# Altium schematic symbol library FT245BL.Schlib: 1 symbol
Pins are listed as number, name and electrical type; pins without a type are passive.

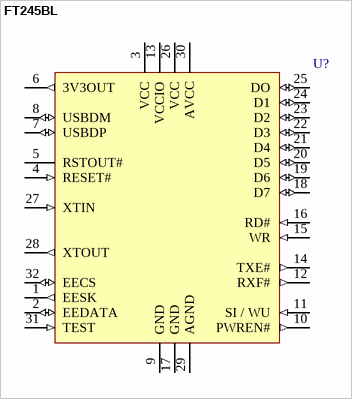
[diagram p0: symbol FT245BL]

## FT245BL
designator U?
USB/Parallel FIFO Bi-Directional Data Transfer Chip, LQFP-32, Pb-Free
pins: 1 EESK (out) "Clock signal to EEPROM. Adding a 10K pull down resistor onto EESK will cause the FT245BM to use USB Product ID 6005 (hex) instead of 6001 (hex). All of the other USB device descriptors are unchanged.", 2 EEDATA (io) "EEPROM - Data I/O Connect directly to Data-In of the EEPROM and to Data-Out of the EEPROM via a 2.2K resistor. Also pull Data-Out of the EEPROM to VCC via a 10K resistor for correct operation.", 3 VCC (power) "+4.35 volt to +5.25 volt VCC to the device core, LDO and none-FIFO interface pins.", 4 RESET# (in) "Can be used by an external device to reset the FT245BM. If not required, tie to VCC.", 5 RSTOUT# (hiz) "Output of the internal Reset Generator. Stays high impedance for 5ms after VCC > 3.5V and the internal clock starts up, then clamps its output to the 3.3V output of the internal regulator.", 6 3V3OUT (out) "3.3 volt Output from the integrated L.D.O. regulator This pin should be decoupled to GND using a 33nF ceramic capacitor in close proximity to the device pin.", 7 USBDP (io) "USB Data Signal Plus (Requires 1.5K pull-up to 3V3OUT or RSTOUT#)", 8 USBDM (io) "USB Data Signal Minus", 9 GND (power) "Device - Ground Supply Pins", 10 PWREN# (out) "Goes Low after the device is configured via USB, then high during USB suspend. Can be used to control power to external logic using a P-Channel MOSFET switch. Enable the Interface Pull-Down Option in EEPROM when using the PWREN# pin in this way.", 11 SI / WU (in) "Send Immediate / WakeUp. Tie this pin to VCCIO if not used.", 12 RXF# (out) "When high, do not read data from the FIFO. When low, there is data available in the FIFO which can be read by strobing RD# low then high again.", 13 VCCIO (power) "+3.0 volt to +5.25 volt VCC to the FIFO interface pins 10..12, 14..16 and 18..25.", 14 TXE# (out) "When high, do not write data into the FIFO. When low, data can be written into the FIFO by strobing WR high then low.", 15 WR (in) "Writes the Data Byte on the D0..D7 into the Transmit FIFO Buffer when WR goes from high to low.", 16 RD# (in) "Enables Current FIFO Data Byte on D0..D7 when low. Fetches the next FIFO Data Byte (if available) from the Receive FIFO Buffer when RD# goes from low to high.", 17 GND (power) "Device - Ground Supply Pins", 18 D7 (io) "FIFO Data Bus Bit 7", 19 D6 (io) "FIFO Data Bus Bit 6", 20 D5 (io) "FIFO Data Bus Bit 5", 21 D4 (io) "FIFO Data Bus Bit 4", 22 D3 (io) "FIFO Data Bus Bit 3", 23 D2 (io) "FIFO Data Bus Bit 2", 24 D1 (io) "FIFO Data Bus Bit 1", 25 DO (io) "FIFO Data Bus Bit 0", 26 VCC (power) "+4.35 volt to +5.25 volt VCC to the device core, LDO and none-FIFO interface pins.", 27 XTIN (in) "Input to 6MHz Crystal Oscillator. Can also be driven by an external 6MHz clock. Note : Switching threshold of this pin is VCC/2, so if driving from an external source, the source must be driving at 5V CMOS level or a.c. coupled to centre around VCC/2.", 28 XTOUT (out) "Output from 6MHz Crystal Oscillator Cell. XTOUT stops oscillating during USB suspend, so take care if using this signal to clock external logic.", 29 AGND (power) "Device - Analog Ground Supply for the internal x8 clock multiplier", 30 AVCC (power) "Device - Analog Power Supply for the internal x8 clock multiplier", 31 TEST (in) "Puts device in I.C. test mode – must be tied to GND for normal operation.", 32 EECS (io) "EEPROM - Chip Select. For 48MHz operation pull EECS to GND using a 10K resistor. For 6MHz operation no resistor is required."